# Altium integrated library TI Power Management Power Modules.IntLib: 831 symbols (part 9 of 44)
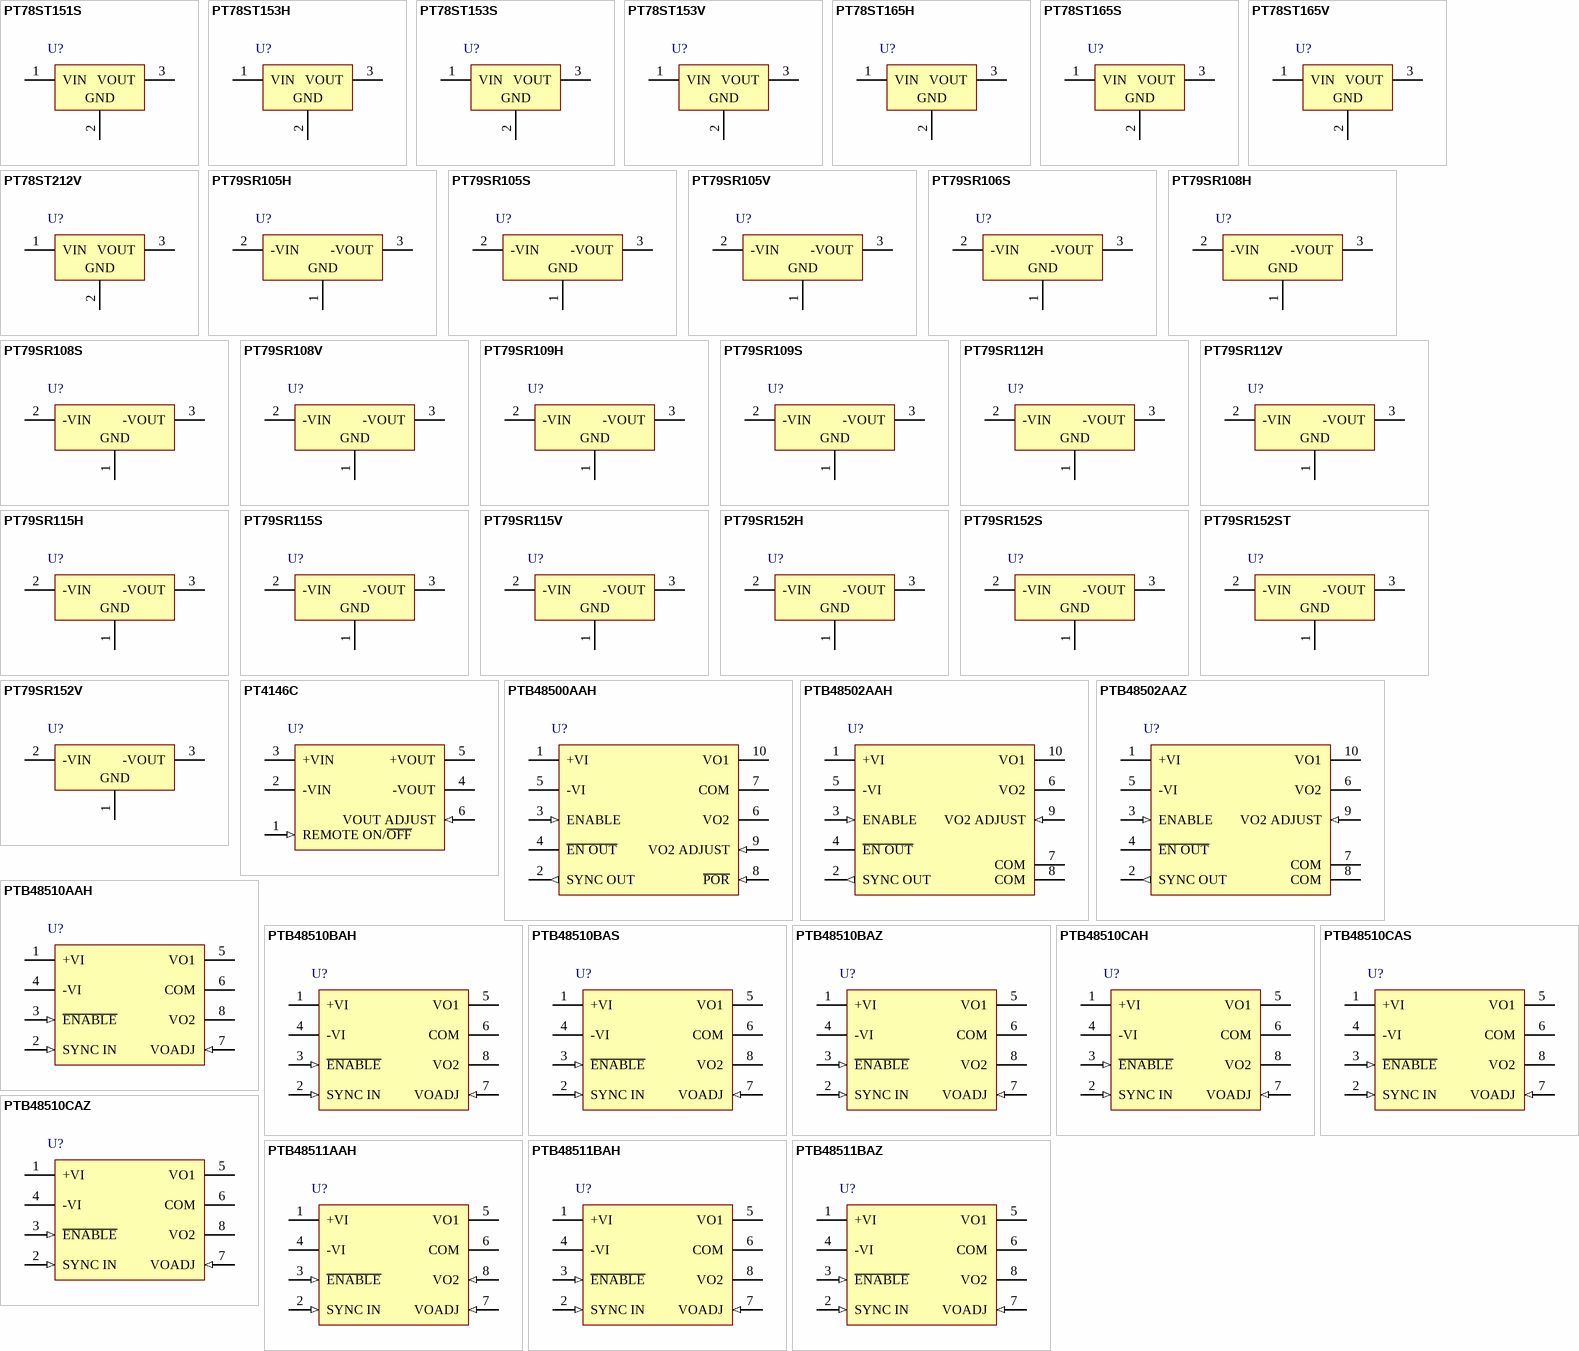
[diagram p31: symbols PT78ST151S to PTB48511BAZ]

## PTB48510BAZ
designator U?
72 W + / - 12 V, Dual Complementary-Output DC-DC Converter, -40 to 85 degC, 8-pin Module (ERL8), Pb-Free (RoHS); Manufacturer: Texas Instruments; PartNumber: PTB48510BAZ; Iout(Max)(A): 3; Regulated Outputs(#): 2; SubFamily: 36V to 75V Input; Vin(Max)(V): 75; Vin(Min)(V): 36; VO Adjustable: TRUE; Vout(Max)(V): 12.4; Vout(Min)(V): 11.6; DatasheetVersion: SLTS219F; PackageVersion: 4205253-3/C; PackageReference: ERL8; PackageDescription: 8-Pin Plastic Special Shape, Body 36.83 x 56.39 mm; Supplier 1: Digi-Key; Supplier Part Number 1: 296-20317-ND; Supplier 2: Newark; Supplier Part Number 2: 37K0677; Supplier 3: Mouser; Supplier Part Number 3: 595-PTB48510BAZ; Eco-Plan: Pb-Free (RoHS); Mounting Technology: Surface Mount; ComponentLink1Description: Manufacturer URL; ComponentLink1URL: http://www.ti.com/; ComponentLink2Description: Datasheet; ComponentLink2URL: http://www.ti.com/general/docs/lit/getliterature.tsp?genericPartNumber=PTB48510B&fileType=pdf; ComponentLink3Description: Package Specification; ComponentLink3URL: http://www.ti.com/lit/ml/mpds149b/mpds149b.pdf; ComponentLink4Description: URL Link1; ComponentLink4URL: Samples URL:http://www.ti.com/product/tps55010#samples
footprint TI-ERL8_V (Module, 8-Leads, Body 56.39x36.83 mm)
pins: 1 +VI (power) "The positive input supply for the module with respect to VI (or ground return). When powering the module from a -48 V telecom central office supply, this input is connected to the primary system ground.", 2 SYNC IN (in) "This pin is used when the PTB4851x and PTB4850x DC/DC converter modules are used together. Connecting this pin to the Sync Out of the PTB4850x module allows the PTB4851x to be synchronized to the same switch conversion (See Datasheet)", 3 ~{ENABLE} (in) "This is an open-collector (open-drain) negative logic input that enables the module output. This pin is referenced to -VI . A logic 0 at this pin enables the module's outputs, and a high impedance disables the outputs. If (See Datasheet)", 4 -VI (power) "The negative input supply for the module, and the 0 VDC reference for the Enable, and Sync In signals. When the module is powered from a +48-V supply, this input is connected to the 48-V Return.", 5 VO1 (power) "The positive output supply voltage, which is referenced to the COM node. The voltage at VO1 has the same magnitude, but is the complement to that at VO2 .", 6 COM (power) "The secondary return reference for the module's regulated output voltages. This node is dc isolated from the input supply pins.", 7 VOADJ (in) "Using a single resistor, this pin allows the magnitude of both VO1 and VO2 to be adjusted together, either higher or lower than their preset value. If not used, this pin should be left open circuit.", 8 VO2 (power) "The negative output supply voltage, which is referenced to the COM node. The voltage at VO2 has the same magnitude, but is the complement to that at VO1 ."

## PTB48510CAH
designator U?
66 W + / - 15 V, Dual Complementary-Output DC-DC Converter, -40 to 85 degC, 8-pin Module (ERK8), Pb-Free (RoHS); Manufacturer: Texas Instruments; PartNumber: PTB48510CAH; Iout(Max)(A): 2.2; Regulated Outputs(#): 2; SubFamily: Standard Brick Module; Vin(Max)(V): 75; Vin(Min)(V): 36; VO Adjustable: TRUE; Vout(Max)(V): 15.5; Vout(Min)(V): 14.5; DatasheetVersion: SLTS219F; PackageVersion: 4205252-3/B; PackageReference: ERK8; PackageDescription: 8-Pin Plastic Special Shape, Body 36.83 x 56.39 mm; Supplier 1: Digi-Key; Supplier Part Number 1: 296-20318-ND; Supplier 2: Newark; Supplier Part Number 2: 65J6314; Supplier 3: Mouser; Supplier Part Number 3: 595-PTB48510CAH; Eco-Plan: Pb-Free (RoHS); Mounting Technology: Through Hole; ComponentLink1Description: Manufacturer URL; ComponentLink1URL: http://www.ti.com/; ComponentLink2Description: Datasheet; ComponentLink2URL: http://www.ti.com/general/docs/lit/getliterature.tsp?genericPartNumber=PTB48510C&fileType=pdf; ComponentLink3Description: Package Specification; ComponentLink3URL: http://www.ti.com/lit/ml/mpds148a/mpds148a.pdf; ComponentLink4Description: URL Link1; ComponentLink4URL: Samples URL:http://www.ti.com/product/ptb48510c#samples
footprint TI-ERK8_V (Module, 8-Leads, Body 56.39x36.83 mm)
pins: 1 +VI (power) "The positive input supply for the module with respect to VI (or ground return). When powering the module from a -48 V telecom central office supply, this input is connected to the primary system ground.", 2 SYNC IN (in) "This pin is used when the PTB4851x and PTB4850x DC/DC converter modules are used together. Connecting this pin to the Sync Out of the PTB4850x module allows the PTB4851x to be synchronized to the same switch conversion (See Datasheet)", 3 ~{ENABLE} (in) "This is an open-collector (open-drain) negative logic input that enables the module output. This pin is referenced to -VI . A logic 0 at this pin enables the module's outputs, and a high impedance disables the outputs. If (See Datasheet)", 4 -VI (power) "The negative input supply for the module, and the 0 VDC reference for the Enable, and Sync In signals. When the module is powered from a +48-V supply, this input is connected to the 48-V Return.", 5 VO1 (power) "The positive output supply voltage, which is referenced to the COM node. The voltage at VO1 has the same magnitude, but is the complement to that at VO2 .", 6 COM (power) "The secondary return reference for the module's regulated output voltages. This node is dc isolated from the input supply pins.", 7 VOADJ (in) "Using a single resistor, this pin allows the magnitude of both VO1 and VO2 to be adjusted together, either higher or lower than their preset value. If not used, this pin should be left open circuit.", 8 VO2 (power) "The negative output supply voltage, which is referenced to the COM node. The voltage at VO2 has the same magnitude, but is the complement to that at VO1 ."

## PTB48510CAS
designator U?
66 W + / - 15 V, Dual Complementary-Output DC-DC Converter, -40 to 85 degC, 8-pin Module (ERL8); Manufacturer: Texas Instruments; PartNumber: PTB48510CAS; Eco-Plan: TBD; Iout(Max)(A): 2.2; Regulated Outputs(#): 2; SubFamily: Standard Brick Module; Vin(Max)(V): 75; Vin(Min)(V): 36; VO Adjustable: TRUE; Vout(Max)(V): 15.5; Vout(Min)(V): 14.5; DatasheetVersion: SLTS219F; PackageVersion: 4205253-3/C; PackageReference: ERL8; PackageDescription: 8-Pin Plastic Special Shape, Body 36.83 x 56.39 mm; Supplier 1: Digi-Key; Supplier Part Number 1: 296-20319-ND; Supplier 2: Newark; Supplier Part Number 2: 65J6315; Supplier 3: Mouser; Supplier Part Number 3: 595-PTB48510CAS; Mounting Technology: Surface Mount; ComponentLink1Description: Manufacturer URL; ComponentLink1URL: http://www.ti.com/; ComponentLink2Description: Datasheet; ComponentLink2URL: http://www.ti.com/general/docs/lit/getliterature.tsp?genericPartNumber=PTB48510C&fileType=pdf; ComponentLink3Description: Package Specification; ComponentLink3URL: http://www.ti.com/lit/ml/mpds149b/mpds149b.pdf; ComponentLink4Description: URL Link1; ComponentLink4URL: Samples URL:http://www.ti.com/product/ptb48510c#samples
footprint TI-ERL8_V (Module, 8-Leads, Body 56.39x36.83 mm)
pins: 1 +VI (power) "The positive input supply for the module with respect to VI (or ground return). When powering the module from a -48 V telecom central office supply, this input is connected to the primary system ground.", 2 SYNC IN (in) "This pin is used when the PTB4851x and PTB4850x DC/DC converter modules are used together. Connecting this pin to the Sync Out of the PTB4850x module allows the PTB4851x to be synchronized to the same switch conversion (See Datasheet)", 3 ~{ENABLE} (in) "This is an open-collector (open-drain) negative logic input that enables the module output. This pin is referenced to -VI . A logic 0 at this pin enables the module's outputs, and a high impedance disables the outputs. If (See Datasheet)", 4 -VI (power) "The negative input supply for the module, and the 0 VDC reference for the Enable, and Sync In signals. When the module is powered from a +48-V supply, this input is connected to the 48-V Return.", 5 VO1 (power) "The positive output supply voltage, which is referenced to the COM node. The voltage at VO1 has the same magnitude, but is the complement to that at VO2 .", 6 COM (power) "The secondary return reference for the module's regulated output voltages. This node is dc isolated from the input supply pins.", 7 VOADJ (in) "Using a single resistor, this pin allows the magnitude of both VO1 and VO2 to be adjusted together, either higher or lower than their preset value. If not used, this pin should be left open circuit.", 8 VO2 (power) "The negative output supply voltage, which is referenced to the COM node. The voltage at VO2 has the same magnitude, but is the complement to that at VO1 ."

## PTB48510CAZ
designator U?
66 W + / - 15 V, Dual Complementary-Output DC-DC Converter, -40 to 85 degC, 8-pin Module (ERL8), Pb-Free (RoHS); Manufacturer: Texas Instruments; PartNumber: PTB48510CAZ; Iout(Max)(A): 2.2; Regulated Outputs(#): 2; SubFamily: Standard Brick Module; Vin(Max)(V): 75; Vin(Min)(V): 36; VO Adjustable: TRUE; Vout(Max)(V): 15.5; Vout(Min)(V): 14.5; DatasheetVersion: SLTS219F; PackageVersion: 4205253-3/C; PackageReference: ERL8; PackageDescription: 8-Pin Plastic Special Shape, Body 36.83 x 56.39 mm; Supplier 1: Digi-Key; Supplier Part Number 1: 296-20320-ND; Supplier 2: Newark; Supplier Part Number 2: 37K0678; Supplier 3: Mouser; Supplier Part Number 3: 595-PTB48510CAZ; Eco-Plan: Pb-Free (RoHS); Mounting Technology: Surface Mount; ComponentLink1Description: Manufacturer URL; ComponentLink1URL: http://www.ti.com/; ComponentLink2Description: Datasheet; ComponentLink2URL: http://www.ti.com/general/docs/lit/getliterature.tsp?genericPartNumber=PTB48510C&fileType=pdf; ComponentLink3Description: Package Specification; ComponentLink3URL: http://www.ti.com/lit/ml/mpds149b/mpds149b.pdf; ComponentLink4Description: URL Link1; ComponentLink4URL: Samples URL:http://www.ti.com/product/ptb48510c#samples
footprint TI-ERL8_V (Module, 8-Leads, Body 56.39x36.83 mm)
pins: 1 +VI (power) "The positive input supply for the module with respect to VI (or ground return). When powering the module from a -48 V telecom central office supply, this input is connected to the primary system ground.", 2 SYNC IN (in) "This pin is used when the PTB4851x and PTB4850x DC/DC converter modules are used together. Connecting this pin to the Sync Out of the PTB4850x module allows the PTB4851x to be synchronized to the same switch conversion (See Datasheet)", 3 ~{ENABLE} (in) "This is an open-collector (open-drain) negative logic input that enables the module output. This pin is referenced to -VI . A logic 0 at this pin enables the module's outputs, and a high impedance disables the outputs. If (See Datasheet)", 4 -VI (power) "The negative input supply for the module, and the 0 VDC reference for the Enable, and Sync In signals. When the module is powered from a +48-V supply, this input is connected to the 48-V Return.", 5 VO1 (power) "The positive output supply voltage, which is referenced to the COM node. The voltage at VO1 has the same magnitude, but is the complement to that at VO2 .", 6 COM (power) "The secondary return reference for the module's regulated output voltages. This node is dc isolated from the input supply pins.", 7 VOADJ (in) "Using a single resistor, this pin allows the magnitude of both VO1 and VO2 to be adjusted together, either higher or lower than their preset value. If not used, this pin should be left open circuit.", 8 VO2 (power) "The negative output supply voltage, which is referenced to the COM node. The voltage at VO2 has the same magnitude, but is the complement to that at VO1 ."

## PTB48511AAH
designator U?
65 W + / - 5 V, Dual Complementary-Output DC-DC Converter with OVP, -40 to 85 degC, 8-pin Module (ERK8), Pb-Free (RoHS); Manufacturer: Texas Instruments; PartNumber: PTB48511AAH; Iout(Max)(A): 6.5; Regulated Outputs(#): 2; SubFamily: Standard Brick Module; Vin(Max)(V): 75; Vin(Min)(V): 36; VO Adjustable: TRUE; Vout(Max)(V): 5.25; Vout(Min)(V): 4.75; DatasheetVersion: SLTS219F; PackageVersion: 4205252-3/B; PackageReference: ERK8; PackageDescription: 8-Pin Plastic Special Shape, Body 36.83 x 56.39 mm; Supplier 1: Digi-Key; Supplier Part Number 1: 296-20321-ND; Supplier 2: Newark; Supplier Part Number 2: 10J9530; Supplier 3: Mouser; Supplier Part Number 3: 595-PTB48511AAH; Eco-Plan: Pb-Free (RoHS); Mounting Technology: Through Hole; ComponentLink1Description: Manufacturer URL; ComponentLink1URL: http://www.ti.com/; ComponentLink2Description: Datasheet; ComponentLink2URL: http://www.ti.com/general/docs/lit/getliterature.tsp?genericPartNumber=PTB48511A&fileType=pdf; ComponentLink3Description: Package Specification; ComponentLink3URL: http://www.ti.com/lit/ml/mpds148a/mpds148a.pdf; ComponentLink4Description: URL Link1; ComponentLink4URL: Samples URL:http://www.ti.com/product/ptb48511a#samples
footprint TI-ERK8_V (Module, 8-Leads, Body 56.39x36.83 mm)
pins: 1 +VI (power) "The positive input supply for the module with respect to VI (or ground return). When powering the module from a -48 V telecom central office supply, this input is connected to the primary system ground.", 2 SYNC IN (in) "This pin is used when the PTB4851x and PTB4850x DC/DC converter modules are used together. Connecting this pin to the Sync Out of the PTB4850x module allows the PTB4851x to be synchronized to the same switch conversion (See Datasheet)", 3 ~{ENABLE} (in) "This is an open-collector (open-drain) negative logic input that enables the module output. This pin is referenced to -VI . A logic 0 at this pin enables the module's outputs, and a high impedance disables the outputs. If (See Datasheet)", 4 -VI (power) "The negative input supply for the module, and the 0 VDC reference for the Enable, and Sync In signals. When the module is powered from a +48-V supply, this input is connected to the 48-V Return.", 5 VO1 (power) "The positive output supply voltage, which is referenced to the COM node. The voltage at VO1 has the same magnitude, but is the complement to that at VO2.", 6 COM (power) "The negative output supply voltage, which is referenced to the COM node. The voltage at VO2 has the same magnitude, but is the complement to that at VO1.", 7 VOADJ (in) "The secondary return reference for the module's regulated output voltages. This node is dc isolated from the input supply pins.", 8 VO2 (in) "Using a single resistor, this pin allows the magnitude of both VO1 and VO2 to be adjusted together, either higher or lower than their preset value. If not used, this pin should be left open circuit."

## PTB48511BAH
designator U?
72 W + / - 12 V, Dual Complementary-Output DC-DC Converter with OVP, -40 to 85 degC, 8-pin Module (ERK8), Pb-Free (RoHS); Manufacturer: Texas Instruments; PartNumber: PTB48511BAH; Iout(Max)(A): 3; Regulated Outputs(#): 2; SubFamily: 36V to 75V Input; Vin(Max)(V): 75; Vin(Min)(V): 36; VO Adjustable: TRUE; Vout(Max)(V): 11.6; Vout(Min)(V): 12.4; DatasheetVersion: SLTS219F; PackageVersion: 4205252-3/B; PackageReference: ERK8; PackageDescription: 8-Pin Plastic Special Shape, Body 36.83 x 56.39 mm; Supplier 1: Digi-Key; Supplier Part Number 1: PTB48511BAH-ND; Supplier 2: Newark; Supplier Part Number 2: 21J8882; Supplier 3: Mouser; Supplier Part Number 3: 595-PTB48511BAH; Eco-Plan: Pb-Free (RoHS); Mounting Technology: Through Hole; ComponentLink1Description: Manufacturer URL; ComponentLink1URL: http://www.ti.com/; ComponentLink2Description: Datasheet; ComponentLink2URL: http://www.ti.com/general/docs/lit/getliterature.tsp?genericPartNumber=PTB48511B&fileType=pdf; ComponentLink3Description: Package Specification; ComponentLink3URL: http://www.ti.com/lit/ml/mpds148a/mpds148a.pdf; ComponentLink4Description: URL Link1; ComponentLink4URL: Samples URL:http://www.ti.com/product/ptb48511b#samples
footprint TI-ERK8_V (Module, 8-Leads, Body 56.39x36.83 mm)
pins: 1 +VI (power) "The positive input supply for the module with respect to VI (or ground return). When powering the module from a -48 V telecom central office supply, this input is connected to the primary system ground.", 2 SYNC IN (in) "This pin is used when the PTB4851x and PTB4850x DC/DC converter modules are used together. Connecting this pin to the Sync Out of the PTB4850x module allows the PTB4851x to be synchronized to the same switch conversion (See Datasheet)", 3 ~{ENABLE} (in) "This is an open-collector (open-drain) negative logic input that enables the module output. This pin is referenced to -VI . A logic 0 at this pin enables the module's outputs, and a high impedance disables the outputs. If (See Datasheet)", 4 -VI (power) "The negative input supply for the module, and the 0 VDC reference for the Enable, and Sync In signals. When the module is powered from a +48-V supply, this input is connected to the 48-V Return.", 5 VO1 (power) "The positive output supply voltage, which is referenced to the COM node. The voltage at VO1 has the same magnitude, but is the complement to that at VO2 .", 6 COM (power) "The secondary return reference for the module's regulated output voltages. This node is dc isolated from the input supply pins.", 7 VOADJ (in) "Using a single resistor, this pin allows the magnitude of both VO1 and VO2 to be adjusted together, either higher or lower than their preset value. If not used, this pin should be left open circuit.", 8 VO2 (power) "The negative output supply voltage, which is referenced to the COM node. The voltage at VO2 has the same magnitude, but is the complement to that at VO1 ."

## PTB48511BAZ
designator U?
72 W + / - 12 V, Dual Complementary-Output DC-DC Converter with OVP, -40 to 85 degC, 8-pin Module (ERL8), Pb-Free (RoHS); Manufacturer: Texas Instruments; PartNumber: PTB48511BAZ; Iout(Max)(A): 3; Regulated Outputs(#): 2; SubFamily: 36V to 75V Input; Vin(Max)(V): 75; Vin(Min)(V): 36; VO Adjustable: TRUE; Vout(Max)(V): 11.6; Vout(Min)(V): 12.4; DatasheetVersion: SLTS219F; PackageVersion: 4205253-3/C; PackageReference: ERL8; PackageDescription: 8-Pin Plastic Special Shape, Body 36.83 x 56.39 mm; Supplier 1: Digi-Key; Supplier Part Number 1: 296-20324-ND; Supplier 2: Newark; Supplier Part Number 2: 37K0680; Supplier 3: Mouser; Supplier Part Number 3: 595-PTB48511BAZ; Eco-Plan: Pb-Free (RoHS); Mounting Technology: Surface Mount; ComponentLink1Description: Manufacturer URL; ComponentLink1URL: http://www.ti.com/; ComponentLink2Description: Datasheet; ComponentLink2URL: http://www.ti.com/general/docs/lit/getliterature.tsp?genericPartNumber=PTB48511B&fileType=pdf; ComponentLink3Description: Package Specification; ComponentLink3URL: http://www.ti.com/lit/ml/mpds149b/mpds149b.pdf; ComponentLink4Description: URL Link1; ComponentLink4URL: Samples URL:http://www.ti.com/product/ptb48511b#samples
footprint TI-ERL8_V (Module, 8-Leads, Body 56.39x36.83 mm)
pins: 1 +VI (power) "The positive input supply for the module with respect to VI (or ground return). When powering the module from a -48 V telecom central office supply, this input is connected to the primary system ground.", 2 SYNC IN (in) "This pin is used when the PTB4851x and PTB4850x DC/DC converter modules are used together. Connecting this pin to the Sync Out of the PTB4850x module allows the PTB4851x to be synchronized to the same switch conversion (See Datasheet)", 3 ~{ENABLE} (in) "This is an open-collector (open-drain) negative logic input that enables the module output. This pin is referenced to -VI . A logic 0 at this pin enables the module's outputs, and a high impedance disables the outputs. If (See Datasheet)", 4 -VI (power) "The negative input supply for the module, and the 0 VDC reference for the Enable, and Sync In signals. When the module is powered from a +48-V supply, this input is connected to the 48-V Return.", 5 VO1 (power) "The positive output supply voltage, which is referenced to the COM node. The voltage at VO1 has the same magnitude, but is the complement to that at VO2 .", 6 COM (power) "The secondary return reference for the module's regulated output voltages. This node is dc isolated from the input supply pins.", 7 VOADJ (in) "Using a single resistor, this pin allows the magnitude of both VO1 and VO2 to be adjusted together, either higher or lower than their preset value. If not used, this pin should be left open circuit.", 8 VO2 (power) "The negative output supply voltage, which is referenced to the COM node. The voltage at VO2 has the same magnitude, but is the complement to that at VO1 ."

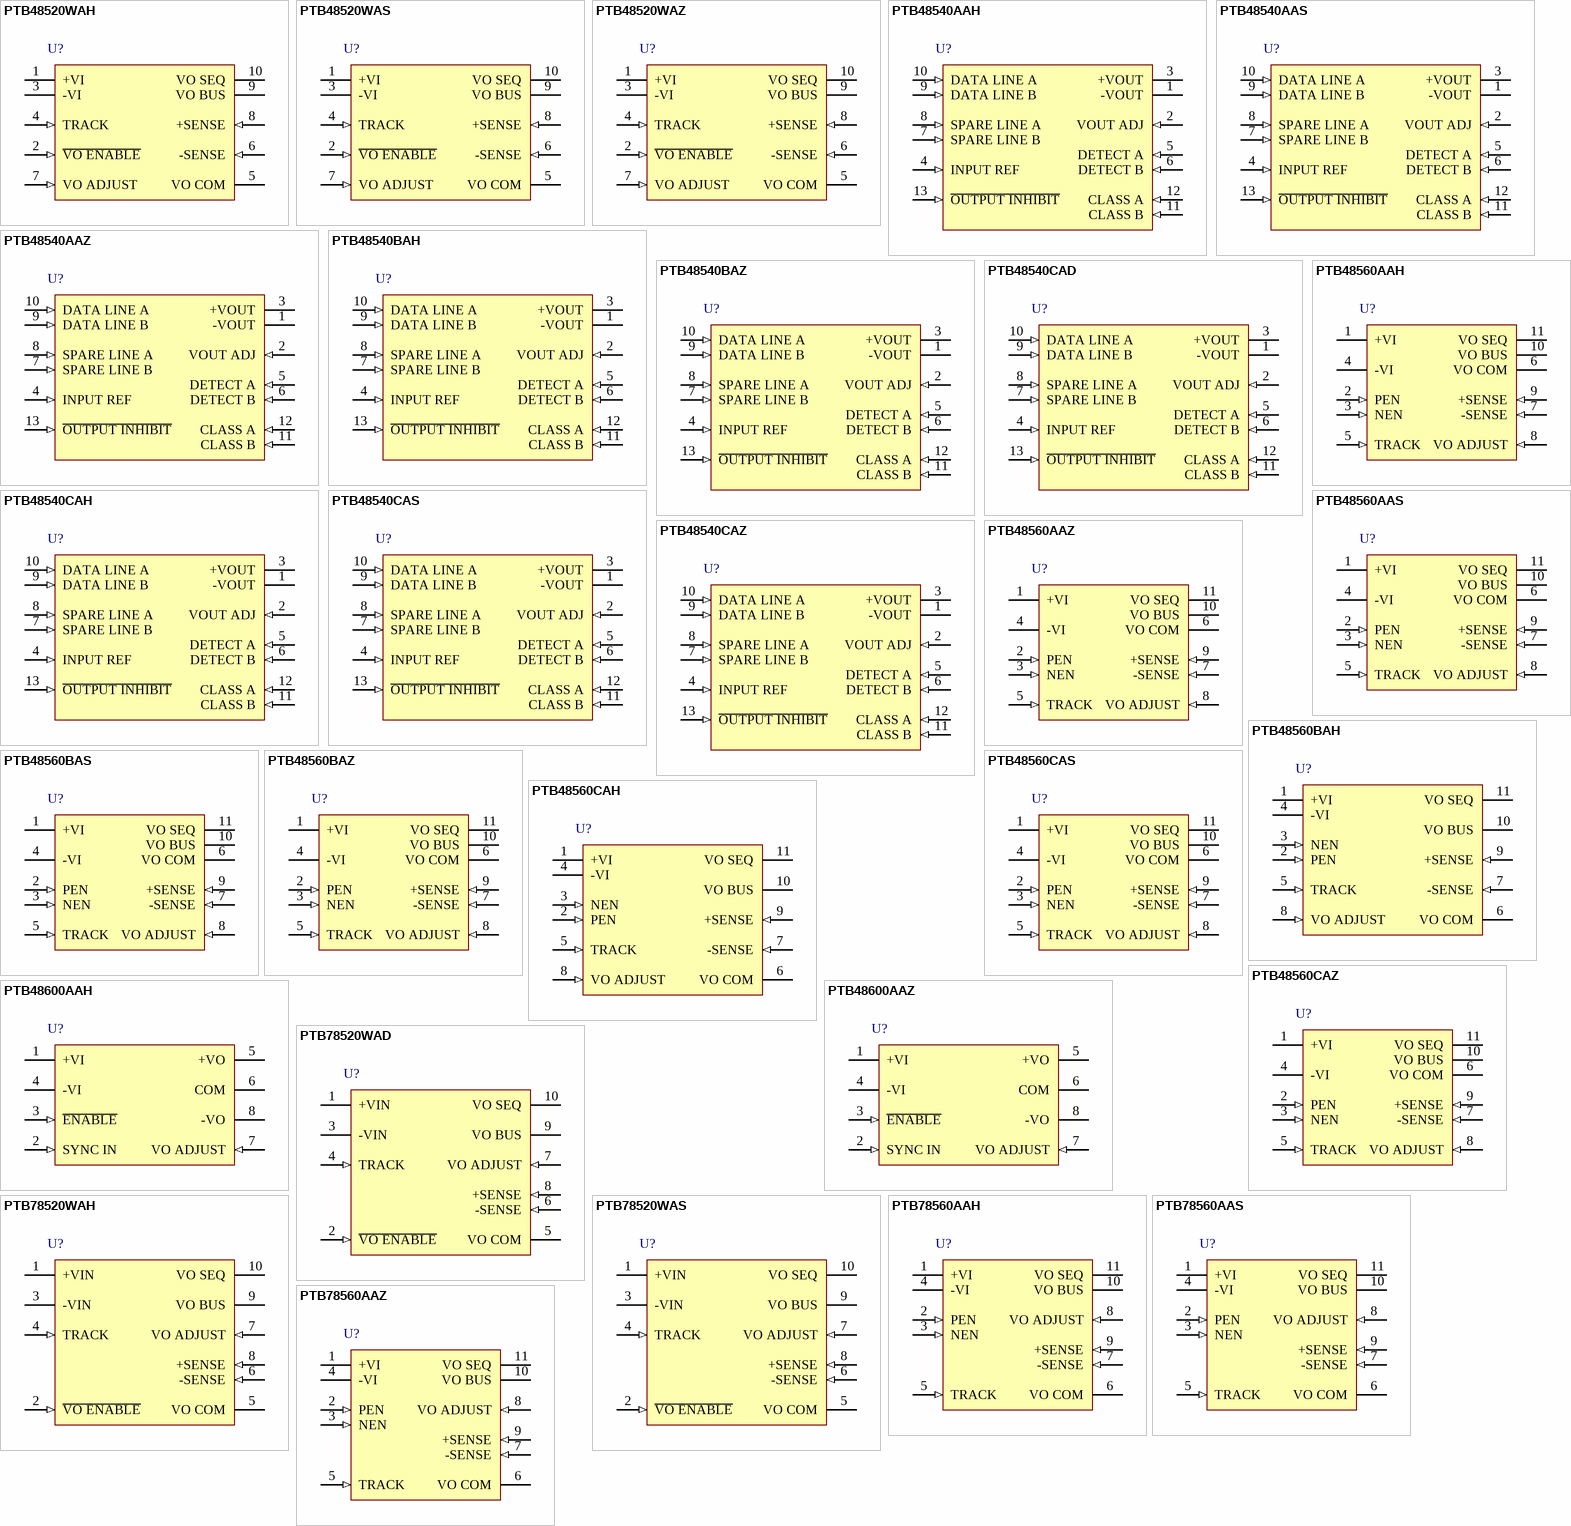
[diagram p7: symbols PTB48520WAH to PTB78560AAZ]

## PTB48520WAH
designator U?
25 A, 48 V Input Isolated DC-DC Converter with Auto-Track(TM) Sequencing, -40 to 85 degC, 10-pin Module (ERP10), Pb-Free (RoHS); Manufacturer: Texas Instruments; PartNumber: PTB48520WAH; Iout(Max)(A): 25; Regulated Outputs(#): 1; SubFamily: Standard Brick Module; Vin(Max)(V): 75; Vin(Min)(V): 36; VO Adjustable: TRUE; Vout(Max)(V): 3.6; Vout(Min)(V): 1.8; DatasheetVersion: SLTS233A; PackageVersion: 4206093/A; PackageReference: ERP10; PackageDescription: 10-Pin Plastic Special Shape, Body 36.83 x 56.39 mm; Supplier 1: Digi-Key; Supplier Part Number 1: 296-20325-ND; Supplier 2: Newark; Supplier Part Number 2: 71J7320; Supplier 3: Mouser; Supplier Part Number 3: 595-PTB48520WAH; Eco-Plan: Pb-Free (RoHS); Mounting Technology: Through Hole; ComponentLink1Description: Manufacturer URL; ComponentLink1URL: http://www.ti.com/; ComponentLink2Description: Datasheet; ComponentLink2URL: http://www.ti.com/general/docs/lit/getliterature.tsp?genericPartNumber=PTB48520W&fileType=pdf; ComponentLink3Description: Package Specification; ComponentLink3URL: http://www.ti.com/litv/pdf/mpds170; ComponentLink4Description: URL Link1; ComponentLink4URL: Samples URL:http://www.ti.com/product/ptb48520w#samples
footprint TI-ERP10_V (Module, 10-Leads, Body 56.39x36.83mm)
pins: 1 +VI (power) "The positive input for the module with respect to -VI. When powering the module from a negative input voltage, this input is connected to the input source ground.", 2 ~{VO ENABLE} (in) "An open-collector (open-drain) negative logic input that is referenced to -VI. This input must be pulled to -Vin potential to enable the output voltage. A highimpedance connection will disable the module output. If the (See Datasheet)", 3 -VI (power) "The negative input supply for the module, and the 0-V reference for the ‘VO Enable’ input. When powering the module from a positive source, this input is connected to the input source return.", 4 TRACK (in) "The voltage at this pin directly controls the voltage at the ‘VO Seq’ regulated output. It is primarily used to sequence the voltage at ‘VO Seq’ with the regulated outputs from any downstream non-isolated modules that are (See Datasheet)", 5 VO COM (power) "This is the output power return for both the ‘VO Bus’ and ‘VO Seq’ output voltages. This node should be connected to the load circuit common.", 6 -SENSE (in) "Provides the converter with a remote sense capability when used in conjunction with +Sense. For optimum output voltage accuracy this pin should always be connected to ‘VO COM’. This pin is also the reference connection for (See Datasheet)", 7 VO ADJUST (in) "A resistor must be connected between this pin and ‘-Sense’ to set the converter’s output voltage. A 0.05-W rated resistor may be used, with tolerance and temperature stability of 1% and 100 ppm/degreesC, respectively. If (See Datasheet)", 8 +SENSE (in) "The ‘+Sense’ pin can be connected to either the ‘VO Bus’ or ‘VO Seq’ outputs. When connected to ‘VO Seq’, remote sense compensation will be delayed until the power-up sequence is complete. The voltage at ‘Vo Bus’ will also (See Datasheet)", 9 VO BUS (power) "Produces a positive power output with respect to ‘VO COM’. This is the main output from the converter when operated in a stand-alone configuration. It is dcisolated from the input power pins and is the first output to rise (See Datasheet)", 10 VO SEQ (power) "This is the sequenced output voltage from the converter. This voltage can be directly controlled from the Track pin. During power up, VO Seq will rise with the Track pin voltage, typically 20 ms after the VO Bus output has (See Datasheet)"

## PTB48520WAS
designator U?
25 A, 48 V Input Isolated DC-DC Converter with Auto-Track(TM) Sequencing, -40 to 85 degC, 10-pin Module (ERQ10); Manufacturer: Texas Instruments; PartNumber: PTB48520WAS; Eco-Plan: TBD; Iout(Max)(A): 25; Regulated Outputs(#): 1; SubFamily: Standard Brick Module; Vin(Max)(V): 75; Vin(Min)(V): 36; VO Adjustable: TRUE; Vout(Max)(V): 3.6; Vout(Min)(V): 1.8; DatasheetVersion: SLTS233A; PackageVersion: 4206094-2/C; PackageReference: ERQ10; PackageDescription: 10-Pin Plastic Special Shape, Body 36.83 x 56.39 mm; Supplier 1: Digi-Key; Supplier Part Number 1: 296-20326-ND; Supplier 2: Newark; Supplier Part Number 2: 71J7321; Supplier 3: Mouser; Supplier Part Number 3: 595-PTB48520WAS; Mounting Technology: Surface Mount; ComponentLink1Description: Manufacturer URL; ComponentLink1URL: http://www.ti.com/; ComponentLink2Description: Datasheet; ComponentLink2URL: http://www.ti.com/general/docs/lit/getliterature.tsp?genericPartNumber=PTB48520W&fileType=pdf; ComponentLink3Description: Package Specification; ComponentLink3URL: http://www.ti.com/lit/ml/mpds171b/mpds171b.pdf; ComponentLink4Description: URL Link1; ComponentLink4URL: Samples URL:http://www.ti.com/product/ptb48520w#samples
footprint TI-ERQ10_V (Module, 10-Leads, Body 56.39x36.83mm, Pitch 3.81mm)
pins: 1 +VI (power) "The positive input for the module with respect to -VI. When powering the module from a negative input voltage, this input is connected to the input source ground.", 2 ~{VO ENABLE} (in) "An open-collector (open-drain) negative logic input that is referenced to -VI. This input must be pulled to -Vin potential to enable the output voltage. A highimpedance connection will disable the module output. If the (See Datasheet)", 3 -VI (power) "The negative input supply for the module, and the 0-V reference for the ‘VO Enable’ input. When powering the module from a positive source, this input is connected to the input source return.", 4 TRACK (in) "The voltage at this pin directly controls the voltage at the ‘VO Seq’ regulated output. It is primarily used to sequence the voltage at ‘VO Seq’ with the regulated outputs from any downstream non-isolated modules that are (See Datasheet)", 5 VO COM (power) "This is the output power return for both the ‘VO Bus’ and ‘VO Seq’ output voltages. This node should be connected to the load circuit common.", 6 -SENSE (in) "Provides the converter with a remote sense capability when used in conjunction with +Sense. For optimum output voltage accuracy this pin should always be connected to ‘VO COM’. This pin is also the reference connection for (See Datasheet)", 7 VO ADJUST (in) "A resistor must be connected between this pin and ‘-Sense’ to set the converter’s output voltage. A 0.05-W rated resistor may be used, with tolerance and temperature stability of 1% and 100 ppm/degreesC, respectively. If (See Datasheet)", 8 +SENSE (in) "The ‘+Sense’ pin can be connected to either the ‘VO Bus’ or ‘VO Seq’ outputs. When connected to ‘VO Seq’, remote sense compensation will be delayed until the power-up sequence is complete. The voltage at ‘Vo Bus’ will also (See Datasheet)", 9 VO BUS (power) "Produces a positive power output with respect to ‘VO COM’. This is the main output from the converter when operated in a stand-alone configuration. It is dcisolated from the input power pins and is the first output to rise (See Datasheet)", 10 VO SEQ (power) "This is the sequenced output voltage from the converter. This voltage can be directly controlled from the Track pin. During power up, VO Seq will rise with the Track pin voltage, typically 20 ms after the VO Bus output has (See Datasheet)"

## PTB48520WAZ
designator U?
25 A, 48 V Input Isolated DC-DC Converter with Auto-Track(TM) Sequencing, -40 to 85 degC, 10-pin Module (ERQ10), Pb-Free (RoHS); Manufacturer: Texas Instruments; PartNumber: PTB48520WAZ; Iout(Max)(A): 25; Regulated Outputs(#): 1; SubFamily: Standard Brick Module; Vin(Max)(V): 75; Vin(Min)(V): 36; VO Adjustable: TRUE; Vout(Max)(V): 3.6; Vout(Min)(V): 1.8; DatasheetVersion: SLTS233A; PackageVersion: 4206094-2/C; PackageReference: ERQ10; PackageDescription: 10-Pin Plastic Special Shape, Body 36.83 x 56.39 mm; Supplier 1: Digi-Key; Supplier Part Number 1: 296-20327-ND; Supplier 2: Newark; Supplier Part Number 2: 37K0681; Supplier 3: Mouser; Supplier Part Number 3: 595-PTB48520WAZ; Eco-Plan: Pb-Free (RoHS); Mounting Technology: Surface Mount; ComponentLink1Description: Manufacturer URL; ComponentLink1URL: http://www.ti.com/; ComponentLink2Description: Datasheet; ComponentLink2URL: http://www.ti.com/general/docs/lit/getliterature.tsp?genericPartNumber=PTB48520W&fileType=pdf; ComponentLink3Description: Package Specification; ComponentLink3URL: http://www.ti.com/lit/ml/mpds171b/mpds171b.pdf; ComponentLink4Description: URL Link1; ComponentLink4URL: Samples URL:http://www.ti.com/product/ptb48520w#samples
footprint TI-ERQ10_V (Module, 10-Leads, Body 56.39x36.83mm, Pitch 3.81mm)
pins: 1 +VI (power) "The positive input for the module with respect to -VI. When powering the module from a negative input voltage, this input is connected to the input source ground.", 2 ~{VO ENABLE} (in) "An open-collector (open-drain) negative logic input that is referenced to -VI. This input must be pulled to -Vin potential to enable the output voltage. A highimpedance connection will disable the module output. If the (See Datasheet)", 3 -VI (power) "The negative input supply for the module, and the 0-V reference for the ‘VO Enable’ input. When powering the module from a positive source, this input is connected to the input source return.", 4 TRACK (in) "The voltage at this pin directly controls the voltage at the ‘VO Seq’ regulated output. It is primarily used to sequence the voltage at ‘VO Seq’ with the regulated outputs from any downstream non-isolated modules that are (See Datasheet)", 5 VO COM (power) "This is the output power return for both the ‘VO Bus’ and ‘VO Seq’ output voltages. This node should be connected to the load circuit common.", 6 -SENSE (in) "Provides the converter with a remote sense capability when used in conjunction with +Sense. For optimum output voltage accuracy this pin should always be connected to ‘VO COM’. This pin is also the reference connection for (See Datasheet)", 7 VO ADJUST (in) "A resistor must be connected between this pin and ‘-Sense’ to set the converter’s output voltage. A 0.05-W rated resistor may be used, with tolerance and temperature stability of 1% and 100 ppm/degreesC, respectively. If (See Datasheet)", 8 +SENSE (in) "The ‘+Sense’ pin can be connected to either the ‘VO Bus’ or ‘VO Seq’ outputs. When connected to ‘VO Seq’, remote sense compensation will be delayed until the power-up sequence is complete. The voltage at ‘Vo Bus’ will also (See Datasheet)", 9 VO BUS (power) "Produces a positive power output with respect to ‘VO COM’. This is the main output from the converter when operated in a stand-alone configuration. It is dcisolated from the input power pins and is the first output to rise (See Datasheet)", 10 VO SEQ (power) "This is the sequenced output voltage from the converter. This voltage can be directly controlled from the Track pin. During power up, VO Seq will rise with the Track pin voltage, typically 20 ms after the VO Bus output has (See Datasheet)"

## PTB48540AAH
designator U?
5 V, 10 W Power-Over-Ethernet Power Module, -40 to 85 degC, 13-pin Module (EUP13), Pb-Free (RoHS); Manufacturer: Texas Instruments; PartNumber: PTB48540AAH; Iout(Max)(A): 2; Regulated Outputs(#): 1; SubFamily: Standard Brick Module; Vin(Max)(V): 57; Vin(Min)(V): 36; VO Adjustable: TRUE; Vout(Max)(V): 5.5; Vout(Min)(V): 4.5; DatasheetVersion: SLTS224B; PackageVersion: 4205907/A; PackageReference: EUP13; PackageDescription: 13-Pin Plastic Special Shape, Body 41.15 x 37.97 mm; Supplier 1: Digi-Key; Supplier Part Number 1: 296-20329-ND; Supplier 2: Newark; Supplier Part Number 2: 10J9532; Supplier 3: Mouser; Supplier Part Number 3: 595-PTB48540AAH; Eco-Plan: Pb-Free (RoHS); Mounting Technology: Surface Mount; ComponentLink1Description: Manufacturer URL; ComponentLink1URL: http://www.ti.com/; ComponentLink2Description: Datasheet; ComponentLink2URL: http://www.ti.com/general/docs/lit/getliterature.tsp?genericPartNumber=PTB48540A&fileType=pdf; ComponentLink3Description: Package Specification; ComponentLink3URL: http://www.ti.com/litv/pdf/mpds161; ComponentLink4Description: URL Link1; ComponentLink4URL: Samples URL:http://www.ti.com/product/ptb48540a#samples
footprint TI-EUP13_V (13-Leads Double Sided Module, Body 42.16x38.99mm)
pins: 1 -VOUT (power) "This is the negative output from the module, with respect to +Vout. Both the +Vout and -Vout terminals are isolated from the Ethernet input, and used to power the PD appliance. When this pin is connected to the PD appliance (See Datasheet)", 2 VOUT ADJ (in) "By connecting a single resistor to this pin, the regulated output voltage may be adjusted/trimmed by up to +/-10 % from the original set-point value. If no adjustment is desired, this pin should be left open circuit.", 3 +VOUT (power) "This is the positive output from the module with respect to -Vout, and is used to power the PD appliance. By connecting this pin to the PD appliance common, a negative supply voltage will be produced at -Vout.", 4 INPUT REF (in) "This pin provides access to the -Vin of the internal DC/DC converter, and is the 0-VDC reference for the ‘Output Inhibit’ control.", 5 DETECT A (in) "This is a control input that is normally left open circuit. The module incorporates an internal 24.9-kO resistor, between the ‘Detect A’ and ‘Detect B’ pins. This provides the PD with a correct “valid device” detection (See Datasheet)", 6 DETECT B (in) "This pin is used in conjunction with the ‘Detect A’ input only when it is desired for the PD to communicate a “non-valid” device signature to the PSE (see ‘Detect A’ description). ‘Detect B’ is also the rectified DC output (See Datasheet)", 7 SPARE LINE B (in) "These are alternative inputs from which the module may obtain DC input power. In a PoE application, ‘Spare Line A’ may be directly connected to pins 4 & 5, and ‘Spare Line B’ to pins 7 & 8 of an Ethernet RJ-45 connector. (See Datasheet)", 8 SPARE LINE A (in) "These are alternative inputs from which the module may obtain DC input power. In a PoE application, ‘Spare Line A’ may be directly connected to pins 4 & 5, and ‘Spare Line B’ to pins 7 & 8 of an Ethernet RJ-45 connector. (See Datasheet)", 9 DATA LINE B (in) "These are the main inputs from which the module obtains DC input power from the Ethernet connector. The connection of these inputs to the Ethernet connections must be via an IEEE 802.3af compliant signal tranformer, that is (See Datasheet)", 10 DATA LINE A (in) "These are the main inputs from which the module obtains DC input power from the Ethernet connector. The connection of these inputs to the Ethernet connections must be via an IEEE 802.3af compliant signal tranformer, that is (See Datasheet)", 11 CLASS B (in) "The control inputs ‘Class A’ and ‘Class B’ allow the PD Class to be programmed from the module. The module incorporates an internal 4.42-kO resistor between the ‘Class A’ and ‘Class B’ inputs. This corresponds to a default (See Datasheet)", 12 CLASS A (in) "The control inputs ‘Class A’ and ‘Class B’ allow the PD Class to be programmed from the module. The module incorporates an internal 4.42-kO resistor between the ‘Class A’ and ‘Class B’ inputs. This corresponds to a default (See Datasheet)", 13 ~{OUTPUT INHIBIT} (in) "This is an open-collector (or open-drain) negative logic input. Applying a low-level voltage to this input, with respect to the ‘Input Ref’ pin, turns off the DC output voltage from the module. If the pin is left (See Datasheet)"

## PTB48540AAS
designator U?
5 V, 10 W Power-Over-Ethernet Power Module, -40 to 85 degC, 13-pin Module (EUQ13); Manufacturer: Texas Instruments; PartNumber: PTB48540AAS; Eco-Plan: TBD; Iout(Max)(A): 2; Regulated Outputs(#): 1; SubFamily: Standard Brick Module; Vin(Max)(V): 57; Vin(Min)(V): 36; VO Adjustable: TRUE; Vout(Max)(V): 5.5; Vout(Min)(V): 4.5; DatasheetVersion: SLTS224B; PackageVersion: 4205908/A; PackageReference: EUQ13; PackageDescription: 13-Pin Plastic Special Shape, Body 41.15 x 37.97 mm; Supplier 1: Digi-Key; Supplier Part Number 1: 296-20330-ND; Supplier 2: Newark; Supplier Part Number 2: 10J9533; Supplier 3: Mouser; Supplier Part Number 3: 595-PTB48540AAS; Mounting Technology: Surface Mount; ComponentLink1Description: Manufacturer URL; ComponentLink1URL: http://www.ti.com/; ComponentLink2Description: Datasheet; ComponentLink2URL: http://www.ti.com/general/docs/lit/getliterature.tsp?genericPartNumber=PTB48540A&fileType=pdf; ComponentLink3Description: Package Specification; ComponentLink3URL: http://www.ti.com/lit/ml/mpds162/mpds162.pdf; ComponentLink4Description: URL Link1; ComponentLink4URL: Samples URL:http://www.ti.com/product/ptb48540a#samples
footprint TI-EUQ13_V (Module, 13-Leads, Body 41.15x37.97 mm)
pins: 1 -VOUT (power) "This is the negative output from the module, with respect to +Vout. Both the +Vout and -Vout terminals are isolated from the Ethernet input, and used to power the PD appliance. When this pin is connected to the PD appliance (See Datasheet)", 2 VOUT ADJ (in) "By connecting a single resistor to this pin, the regulated output voltage may be adjusted/trimmed by up to +/-10 % from the original set-point value. If no adjustment is desired, this pin should be left open circuit.", 3 +VOUT (power) "This is the positive output from the module with respect to -Vout, and is used to power the PD appliance. By connecting this pin to the PD appliance common, a negative supply voltage will be produced at -Vout.", 4 INPUT REF (in) "This pin provides access to the -Vin of the internal DC/DC converter, and is the 0-VDC reference for the ‘Output Inhibit’ control.", 5 DETECT A (in) "This is a control input that is normally left open circuit. The module incorporates an internal 24.9-kO resistor, between the ‘Detect A’ and ‘Detect B’ pins. This provides the PD with a correct “valid device” detection (See Datasheet)", 6 DETECT B (in) "This pin is used in conjunction with the ‘Detect A’ input only when it is desired for the PD to communicate a “non-valid” device signature to the PSE (see ‘Detect A’ description). ‘Detect B’ is also the rectified DC output (See Datasheet)", 7 SPARE LINE B (in) "These are alternative inputs from which the module may obtain DC input power. In a PoE application, ‘Spare Line A’ may be directly connected to pins 4 & 5, and ‘Spare Line B’ to pins 7 & 8 of an Ethernet RJ-45 connector. (See Datasheet)", 8 SPARE LINE A (in) "These are alternative inputs from which the module may obtain DC input power. In a PoE application, ‘Spare Line A’ may be directly connected to pins 4 & 5, and ‘Spare Line B’ to pins 7 & 8 of an Ethernet RJ-45 connector. (See Datasheet)", 9 DATA LINE B (in) "These are the main inputs from which the module obtains DC input power from the Ethernet connector. The connection of these inputs to the Ethernet connections must be via an IEEE 802.3af compliant signal tranformer, that is (See Datasheet)", 10 DATA LINE A (in) "These are the main inputs from which the module obtains DC input power from the Ethernet connector. The connection of these inputs to the Ethernet connections must be via an IEEE 802.3af compliant signal tranformer, that is (See Datasheet)", 11 CLASS B (in) "The control inputs ‘Class A’ and ‘Class B’ allow the PD Class to be programmed from the module. The module incorporates an internal 4.42-kO resistor between the ‘Class A’ and ‘Class B’ inputs. This corresponds to a default (See Datasheet)", 12 CLASS A (in) "The control inputs ‘Class A’ and ‘Class B’ allow the PD Class to be programmed from the module. The module incorporates an internal 4.42-kO resistor between the ‘Class A’ and ‘Class B’ inputs. This corresponds to a default (See Datasheet)", 13 ~{OUTPUT INHIBIT} (in) "This is an open-collector (or open-drain) negative logic input. Applying a low-level voltage to this input, with respect to the ‘Input Ref’ pin, turns off the DC output voltage from the module. If the pin is left (See Datasheet)"

## PTB48540AAZ
designator U?
5 V, 10 W Power-Over-Ethernet Power Module, -40 to 85 degC, 13-pin Module (EUQ13), Pb-Free (RoHS); Manufacturer: Texas Instruments; PartNumber: PTB48540AAZ; Iout(Max)(A): 2; Regulated Outputs(#): 1; SubFamily: Standard Brick Module; Vin(Max)(V): 57; Vin(Min)(V): 36; VO Adjustable: TRUE; Vout(Max)(V): 5.5; Vout(Min)(V): 4.5; DatasheetVersion: SLTS224B; PackageVersion: 4205908/A; PackageReference: EUQ13; PackageDescription: 13-Pin Plastic Special Shape, Body 41.15 x 37.97 mm; Supplier 1: Digi-Key; Supplier Part Number 1: 296-20331-ND; Supplier 2: Newark; Supplier Part Number 2: 37K0683; Supplier 3: Mouser; Supplier Part Number 3: 595-PTB48540AAZ; Eco-Plan: Pb-Free (RoHS); Mounting Technology: Surface Mount; ComponentLink1Description: Manufacturer URL; ComponentLink1URL: http://www.ti.com/; ComponentLink2Description: Datasheet; ComponentLink2URL: http://www.ti.com/general/docs/lit/getliterature.tsp?genericPartNumber=PTB48540A&fileType=pdf; ComponentLink3Description: Package Specification; ComponentLink3URL: http://www.ti.com/lit/ml/mpds162/mpds162.pdf; ComponentLink4Description: URL Link1; ComponentLink4URL: Samples URL:http://www.ti.com/product/ptb48540a#samples
footprint TI-EUQ13_V (Module, 13-Leads, Body 41.15x37.97 mm)
pins: 1 -VOUT (power) "This is the negative output from the module, with respect to +Vout. Both the +Vout and -Vout terminals are isolated from the Ethernet input, and used to power the PD appliance. When this pin is connected to the PD appliance (See Datasheet)", 2 VOUT ADJ (in) "By connecting a single resistor to this pin, the regulated output voltage may be adjusted/trimmed by up to +/-10 % from the original set-point value. If no adjustment is desired, this pin should be left open circuit.", 3 +VOUT (power) "This is the positive output from the module with respect to -Vout, and is used to power the PD appliance. By connecting this pin to the PD appliance common, a negative supply voltage will be produced at -Vout.", 4 INPUT REF (in) "This pin provides access to the -Vin of the internal DC/DC converter, and is the 0-VDC reference for the ‘Output Inhibit’ control.", 5 DETECT A (in) "This is a control input that is normally left open circuit. The module incorporates an internal 24.9-kO resistor, between the ‘Detect A’ and ‘Detect B’ pins. This provides the PD with a correct “valid device” detection (See Datasheet)", 6 DETECT B (in) "This pin is used in conjunction with the ‘Detect A’ input only when it is desired for the PD to communicate a “non-valid” device signature to the PSE (see ‘Detect A’ description). ‘Detect B’ is also the rectified DC output (See Datasheet)", 7 SPARE LINE B (in) "These are alternative inputs from which the module may obtain DC input power. In a PoE application, ‘Spare Line A’ may be directly connected to pins 4 & 5, and ‘Spare Line B’ to pins 7 & 8 of an Ethernet RJ-45 connector. (See Datasheet)", 8 SPARE LINE A (in) "These are alternative inputs from which the module may obtain DC input power. In a PoE application, ‘Spare Line A’ may be directly connected to pins 4 & 5, and ‘Spare Line B’ to pins 7 & 8 of an Ethernet RJ-45 connector. (See Datasheet)", 9 DATA LINE B (in) "These are the main inputs from which the module obtains DC input power from the Ethernet connector. The connection of these inputs to the Ethernet connections must be via an IEEE 802.3af compliant signal tranformer, that is (See Datasheet)", 10 DATA LINE A (in) "These are the main inputs from which the module obtains DC input power from the Ethernet connector. The connection of these inputs to the Ethernet connections must be via an IEEE 802.3af compliant signal tranformer, that is (See Datasheet)", 11 CLASS B (in) "The control inputs ‘Class A’ and ‘Class B’ allow the PD Class to be programmed from the module. The module incorporates an internal 4.42-kO resistor between the ‘Class A’ and ‘Class B’ inputs. This corresponds to a default (See Datasheet)", 12 CLASS A (in) "The control inputs ‘Class A’ and ‘Class B’ allow the PD Class to be programmed from the module. The module incorporates an internal 4.42-kO resistor between the ‘Class A’ and ‘Class B’ inputs. This corresponds to a default (See Datasheet)", 13 ~{OUTPUT INHIBIT} (in) "This is an open-collector (or open-drain) negative logic input. Applying a low-level voltage to this input, with respect to the ‘Input Ref’ pin, turns off the DC output voltage from the module. If the pin is left (See Datasheet)"

## PTB48540BAH
designator U?
3.3 V, 10 W Power-Over-Ethernet Power Module, -40 to 85 degC, 13-pin Module (EUP13), Pb-Free (RoHS); Manufacturer: Texas Instruments; PartNumber: PTB48540BAH; Iout(Max)(A): 3; Regulated Outputs(#): 1; SubFamily: Standard Brick Module; Vin(Max)(V): 57; Vin(Min)(V): 36; VO Adjustable: TRUE; Vout(Max)(V): 3.65; Vout(Min)(V): 2.95; DatasheetVersion: SLTS224B; PackageVersion: 4205907/A; PackageReference: EUP13; PackageDescription: 13-Pin Plastic Special Shape, Body 41.15 x 37.97 mm; Supplier 1: Digi-Key; Supplier Part Number 1: 296-20332-ND; Supplier 2: Newark; Supplier Part Number 2: 10J9534; Supplier 3: Mouser; Supplier Part Number 3: 595-PTB48540BAH; Eco-Plan: Pb-Free (RoHS); Mounting Technology: Surface Mount; ComponentLink1Description: Manufacturer URL; ComponentLink1URL: http://www.ti.com/; ComponentLink2Description: Datasheet; ComponentLink2URL: http://www.ti.com/general/docs/lit/getliterature.tsp?genericPartNumber=PTB48540B&fileType=pdf; ComponentLink3Description: Package Specification; ComponentLink3URL: http://www.ti.com/litv/pdf/mpds161; ComponentLink4Description: URL Link1; ComponentLink4URL: Samples URL:http://www.ti.com/product/ptb48540b#samples
footprint TI-EUP13_V (13-Leads Double Sided Module, Body 42.16x38.99mm)
pins: 1 -VOUT (power) "This is the negative output from the module, with respect to +Vout. Both the +Vout and -Vout terminals are isolated from the Ethernet input, and used to power the PD appliance. When this pin is connected to the PD appliance (See Datasheet)", 2 VOUT ADJ (in) "By connecting a single resistor to this pin, the regulated output voltage may be adjusted/trimmed by up to +/-10 % from the original set-point value. If no adjustment is desired, this pin should be left open circuit.", 3 +VOUT (power) "This is the positive output from the module with respect to -Vout, and is used to power the PD appliance. By connecting this pin to the PD appliance common, a negative supply voltage will be produced at -Vout.", 4 INPUT REF (in) "This pin provides access to the -Vin of the internal DC/DC converter, and is the 0-VDC reference for the ‘Output Inhibit’ control.", 5 DETECT A (in) "This is a control input that is normally left open circuit. The module incorporates an internal 24.9-kO resistor, between the ‘Detect A’ and ‘Detect B’ pins. This provides the PD with a correct “valid device” detection (See Datasheet)", 6 DETECT B (in) "This pin is used in conjunction with the ‘Detect A’ input only when it is desired for the PD to communicate a “non-valid” device signature to the PSE (see ‘Detect A’ description). ‘Detect B’ is also the rectified DC output (See Datasheet)", 7 SPARE LINE B (in) "These are alternative inputs from which the module may obtain DC input power. In a PoE application, ‘Spare Line A’ may be directly connected to pins 4 & 5, and ‘Spare Line B’ to pins 7 & 8 of an Ethernet RJ-45 connector. (See Datasheet)", 8 SPARE LINE A (in) "These are alternative inputs from which the module may obtain DC input power. In a PoE application, ‘Spare Line A’ may be directly connected to pins 4 & 5, and ‘Spare Line B’ to pins 7 & 8 of an Ethernet RJ-45 connector. (See Datasheet)", 9 DATA LINE B (in) "These are the main inputs from which the module obtains DC input power from the Ethernet connector. The connection of these inputs to the Ethernet connections must be via an IEEE 802.3af compliant signal tranformer, that is (See Datasheet)", 10 DATA LINE A (in) "These are the main inputs from which the module obtains DC input power from the Ethernet connector. The connection of these inputs to the Ethernet connections must be via an IEEE 802.3af compliant signal tranformer, that is (See Datasheet)", 11 CLASS B (in) "The control inputs ‘Class A’ and ‘Class B’ allow the PD Class to be programmed from the module. The module incorporates an internal 4.42-kO resistor between the ‘Class A’ and ‘Class B’ inputs. This corresponds to a default (See Datasheet)", 12 CLASS A (in) "The control inputs ‘Class A’ and ‘Class B’ allow the PD Class to be programmed from the module. The module incorporates an internal 4.42-kO resistor between the ‘Class A’ and ‘Class B’ inputs. This corresponds to a default (See Datasheet)", 13 ~{OUTPUT INHIBIT} (in) "This is an open-collector (or open-drain) negative logic input. Applying a low-level voltage to this input, with respect to the ‘Input Ref’ pin, turns off the DC output voltage from the module. If the pin is left (See Datasheet)"